# EAGLE library part 1X11 (library magzor-connectors)
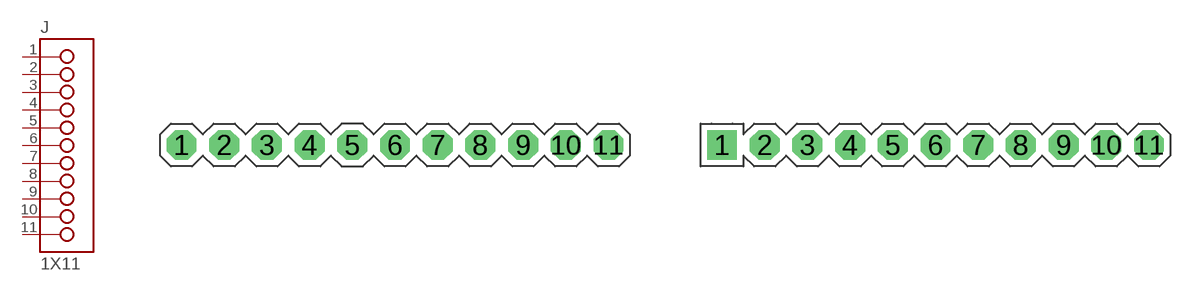
[diagram p5: symbol with the pads of P0.1IN-1X11; footprints P0.1IN-1X11, P0.1IN-1X11-1SQ]

Designator prefix J

## 1X11-0.1IN  [P0.1IN-1X11]
1  1
2  2
3  3
4  4
5  5
6  6
7  7
8  8
9  9
10  10
11  11

## 1X11-0.1IN-1SQ  [P0.1IN-1X11-1SQ]
Pads as for P0.1IN-1X11

## Footprint P0.1IN-1X11 (pad centres in mm)
drill 0.965 pad 1.778 octagon: 1 -12.7,0; 2 -10.16,0; 3 -7.62,0; 4 -5.08,0; 5 -2.54,0; 6 0,0; 7 2.54,0; 8 5.08,0; 9 7.62,0; 10 10.16,0; 11 12.7,0

## Footprint P0.1IN-1X11-1SQ (pad centres in mm)
drill 0.965 pad 1.778 square: 1 -12.7,0
drill 0.965 pad 1.778 octagon: 2 -10.16,0; 3 -7.62,0; 4 -5.08,0; 5 -2.54,0; 6 0,0; 7 2.54,0; 8 5.08,0; 9 7.62,0; 10 10.16,0; 11 12.7,0